# Altium schematic symbol library LED.SCHLIB: 1 symbol
Pins are listed as number, name and electrical type; pins without a type are passive.

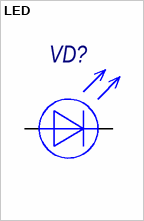
[diagram p0: symbol LED]

## LED
designator VD?
pins: 1 C, 2 A
3 alternate drawings of the same symbol